# Altium schematic symbol library UPD_schematic_lib.SchLib: 1 symbol
Pins are listed as number, name and electrical type; pins without a type are passive.

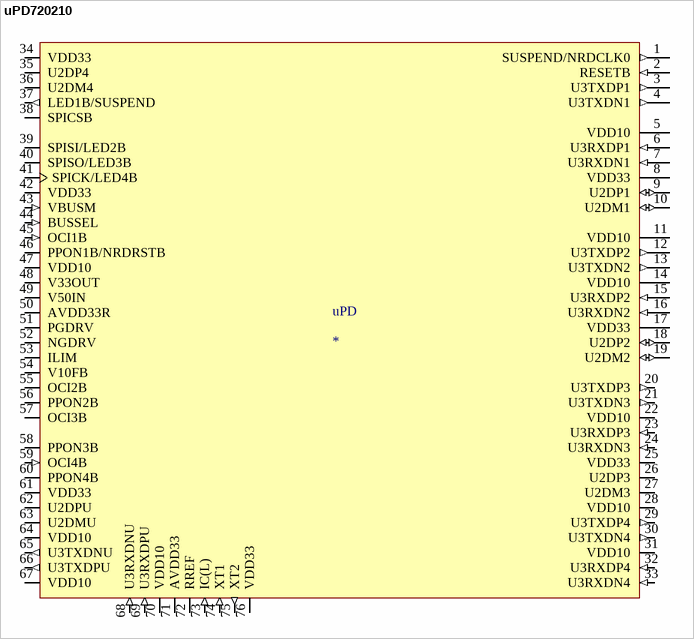
[diagram p0: symbol uPD720210]

## uPD720210
designator uPD
footprint QFN40P900X900X10_HS-77N (QFN, 76-Leads, Body 9.00x9.00mm, Pitch 0.40mm/0.50mm, Thermal Pad 5.30x5.30mm, IPC Medium Density)
pins: 1 SUSPEND/NRDCLK0 (out), 2 RESETB (in), 3 U3TXDP1 (out), 4 U3TXDN1 (out), 5 VDD10 (power), 6 U3RXDP1 (in), 7 U3RXDN1 (in), 8 VDD33 (power), 9 U2DP1 (io), 10 U2DM1 (io), 11 VDD10 (power), 12 U3TXDP2 (out), 13 U3TXDN2 (out), 14 VDD10 (power), 15 U3RXDP2 (in), 16 U3RXDN2 (in), 17 VDD33 (power), 18 U2DP2 (io), 19 U2DM2 (io), 20 U3TXDP3 (out), 21 U3TXDN3 (out), 22 VDD10 (power), 23 U3RXDP3 (in), 24 U3RXDN3 (in), 25 VDD33, 26 U2DP3 (io), 27 U2DM3 (io), 28 VDD10 (power), 29 U3TXDP4 (out), 30 U3TXDN4 (out), 31 VDD10 (power), 32 U3RXDP4 (in), 33 U3RXDN4 (in), 34 VDD33 (power), 35 U2DP4 (io), 36 U2DM4 (io), 37 LED1B/SUSPEND (out), 38 SPICSB (io), 39 SPISI/LED2B (io), 40 SPISO/LED3B (io), 41 SPICK/LED4B (io), 42 VDD33 (power), 43 VBUSM (in), 44 BUSSEL (in), 45 OCI1B (in), 46 PPON1B/NRDRSTB (io), 47 VDD10 (power), 48 V33OUT (power), 49 V50IN (power), 50 AVDD33R (power), 51 PGDRV, 52 NGDRV, 53 ILIM, 54 V10FB, 55 OCI2B (io), 56 PPON2B (io), 57 OCI3B (io), 58 PPON3B (io), 59 OCI4B (in), 60 PPON4B (io), 61 VDD33 (power), 62 U2DPU (io), 63 U2DMU (io), 64 VDD10 (power), 65 U3TXDNU (out), 66 U3TXDPU (out), 67 VDD10 (power), 68 U3RXDNU (in), 69 U3RXDPU (in), 70 VDD10 (power), 71 AVDD33 (power), 72 RREF, 73 IC(L) (in), 74 XT1 (in), 75 XT2 (out), 76 VDD33 (power)